# Altium footprint library Button_Switch_SMD.PcbLib: 148 footprints (part 9 of 10)
Each footprint in its own frame and in the unit in brackets; x right, y up, seen from the top. Pads: shape width x height; smd on the part's side, far side on the other; paste and mask are expansions set on the pad; w line width, h text height; cw(c..) or ccw(c..) is an arc to the next point about the centre after c.
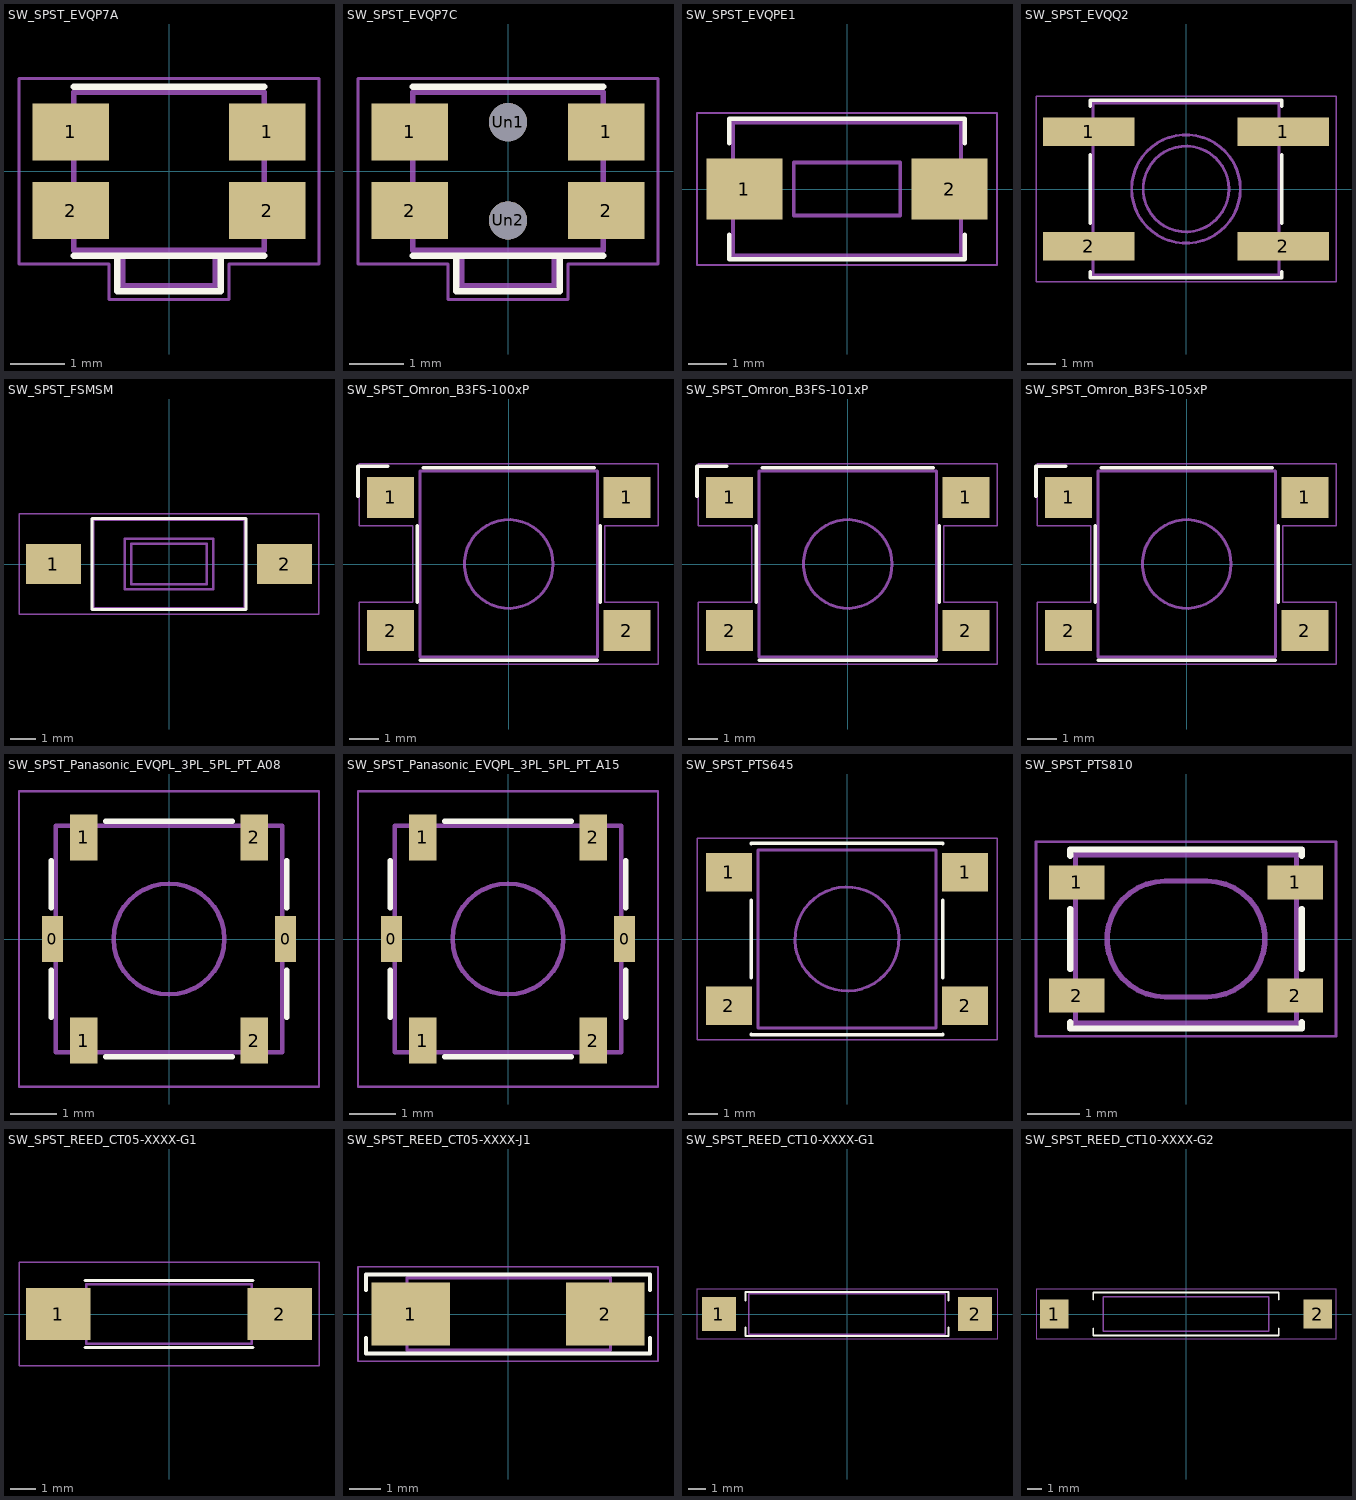
[diagram p8: the footprints below, top view; thin cyan lines are the x and y axes]

## SW_SPST_EVQP7A [mm]
pads (4):
  rect 1.4x1.05 smd: 1(-1.8,0.72) 1(1.8,0.72) 2(-1.8,-0.72) 2(1.8,-0.72)
F.SilkS:
  lines w0.12: -1.75,-1.55 1.75,-1.55 ; -1.75,1.55 1.75,1.55 ; -0.95,-1.55 -0.95,-2.2 0.95,-2.2 0.95,-1.55
F.CrtYd:
  lines w0.05: -2.75,-1.7 -1.1,-1.7 -1.1,-2.35 1.1,-2.35 1.1,-1.7 2.75,-1.7 2.75,1.7 -2.75,1.7 -2.75,-1.7
F.Fab:
  lines w0.1: -1.75,1.4 -1.75,-1.45 1.75,-1.45 1.75,1.45 -1.75,1.45 ; -0.85,-1.45 -0.85,-2.1 0.85,-2.1 0.85,-1.45
  text "'.Designator'" at -4.047,1.66 h1

## SW_SPST_EVQP7C [mm]
pads (6):
  rect 1.4x1.05 smd: 1(-1.8,0.72) 1(1.8,0.72) 2(-1.8,-0.72) 2(1.8,-0.72)
  round 0.7 hole 0.7: Un1(0,0.9) Un2(0,-0.9)
F.SilkS:
  lines w0.12: -1.75,-1.55 1.75,-1.55 ; -1.75,1.55 1.75,1.55 ; -0.95,-1.55 -0.95,-2.2 0.95,-2.2 0.95,-1.55
F.CrtYd:
  lines w0.05: -2.75,-1.7 -1.1,-1.7 -1.1,-2.35 1.1,-2.35 1.1,-1.7 2.75,-1.7 2.75,1.7 -2.75,1.7 -2.75,-1.7
F.Fab:
  lines w0.1: -1.75,1.4 -1.75,-1.45 1.75,-1.45 1.75,1.45 -1.75,1.45 ; -0.85,-1.45 -0.85,-2.1 0.85,-2.1 0.85,-1.45
  text "'.Designator'" at -4.047,1.66 h1

## SW_SPST_EVQPE1 [mm]
pads (2):
  rect 2x1.6 smd: 1(-2.7,0) 2(2.7,0)
F.SilkS:
  lines w0.12: -3.1,-1.2 -3.1,-1.85 3.1,-1.85 3.1,-1.2 ; -3.1,1.2 -3.1,1.85 3.1,1.85 3.1,1.2
F.CrtYd:
  lines w0.05: -3.95,-2 3.95,-2 3.95,2 -3.95,2 -3.95,-2
F.Fab:
  lines w0.1: -3,-1.75 3,-1.75 3,1.75 -3,1.75 -3,-1.75 ; -1.4,-0.7 1.4,-0.7 1.4,0.7 -1.4,0.7 -1.4,-0.7
  text "'.Designator'" at -4.047,1.81 h1

## SW_SPST_EVQQ2 [mm]
pads (4):
  rect 3.2x1 smd: 1(-3.4,2) 1(3.4,2) 2(-3.4,-2) 2(3.4,-2)
F.SilkS:
  lines w0.12: -3.35,-2.9 -3.35,-3.1 3.35,-3.1 3.35,-2.9 ; -3.35,-1.2 -3.35,1.2 ; -3.35,2.9 -3.35,3.1 3.35,3.1 3.35,2.9 ; 3.35,-1.2 3.35,1.2
F.CrtYd:
  lines w0.05: -5.25,-3.25 -5.25,3.25 5.25,3.25 5.25,-3.25 -5.25,-3.25
F.Fab:
  circle w0.1: c0,0 r1.9
  circle w0.1: c0,0 r1.5
  lines w0.1: -3.25,-3 3.25,-3 3.25,3 -3.25,3 -3.25,-3
  text "'.Designator'" at -3.997,3.11 h1

## SW_SPST_FSMSM [mm]
pads (2):
  rect 2.18x1.6 smd: 1(-4.59,0) 2(4.59,0)
F.SilkS:
  lines w0.12: -3.06,-1.81 -3.06,1.81 3.06,1.81 3.06,-1.81 -3.06,-1.81
F.CrtYd:
  lines w0.05: -5.95,-2 5.95,-2 5.95,2 -5.95,2 -5.95,-2
F.Fab:
  lines w0.1: -3,-1.75 3,-1.75 3,1.75 -3,1.75 -3,-1.75 ; -1.75,-1 -1.75,1 1.75,1 1.75,-1 -1.75,-1 ; -1.5,-0.8 -1.5,0.8 1.5,0.8 1.5,-0.8 -1.5,-0.8
  text "'.Designator'" at -4.047,1.76 h1

## SW_SPST_Omron_B3FS-100xP [mm]
pads (4):
  rect 1.6x1.4 smd: 1(-4,2.25) 1(4,2.25) 2(-4,-2.25) 2(4,-2.25)
F.SilkS:
  lines w0.12: -5.1,2.3 -5.1,3.3 -4.1,3.3 ; -3.1,-1.3 -3.1,1.3 ; -3,-3.25 3,-3.25 ; -2.9,3.25 2.9,3.25 ; 3.1,-1.3 3.1,1.3
F.CrtYd:
  lines w0.05: -5.05,-3.4 5.05,-3.4 5.05,-1.3 3.25,-1.3 3.25,1.3 5.05,1.3 5.05,3.4 -5.05,3.4 -5.05,1.3 -3.25,1.3 -3.25,-1.3 -5.05,-1.3 -5.05,-3.4
F.Fab:
  circle w0.1: c0,0 r1.5
  lines w0.1: -3,-3.15 3,-3.15 3,3.15 -3,3.15 -3,-3.15
  text "'.Designator'" at -4.047,1.36 h1

## SW_SPST_Omron_B3FS-101xP [mm]
pads (4):
  rect 1.6x1.4 smd: 1(-4,2.25) 1(4,2.25) 2(-4,-2.25) 2(4,-2.25)
F.SilkS:
  lines w0.12: -5.1,2.3 -5.1,3.3 -4.1,3.3 ; -3.1,-1.3 -3.1,1.3 ; -3,-3.25 3,-3.25 ; -2.9,3.25 2.9,3.25 ; 3.1,-1.3 3.1,1.3
F.CrtYd:
  lines w0.05: -5.05,-3.4 -5.05,-1.3 -3.25,-1.3 -3.25,1.3 -5.05,1.3 -5.05,3.4 5.05,3.4 5.05,1.3 3.25,1.3 3.25,-1.3 5.05,-1.3 5.05,-3.4 -5.05,-3.4
F.Fab:
  circle w0.1: c0,0 r1.5
  lines w0.1: -3,-3.15 3,-3.15 3,3.15 -3,3.15 -3,-3.15
  text "'.Designator'" at -4.047,1.36 h1

## SW_SPST_Omron_B3FS-105xP [mm]
pads (4):
  rect 1.6x1.4 smd: 1(-4,2.25) 1(4,2.25) 2(-4,-2.25) 2(4,-2.25)
F.SilkS:
  lines w0.12: -5.1,2.3 -5.1,3.3 -4.1,3.3 ; -3.1,-1.3 -3.1,1.3 ; -3,-3.25 3,-3.25 ; -2.9,3.25 2.9,3.25 ; 3.1,-1.3 3.1,1.3
F.CrtYd:
  lines w0.05: -5.05,-3.4 5.05,-3.4 5.05,-1.3 3.25,-1.3 3.25,1.3 5.05,1.3 5.05,3.4 -5.05,3.4 -5.05,1.3 -3.25,1.3 -3.25,-1.3 -5.05,-1.3 -5.05,-3.4
F.Fab:
  circle w0.1: c0,0 r1.5
  lines w0.1: -3,-3.15 3,-3.15 3,3.15 -3,3.15 -3,-3.15
  text "'.Designator'" at -4.047,1.36 h1

## SW_SPST_Panasonic_EVQPL_3PL_5PL_PT_A08 [mm]
pads (6):
  rect 0.45x1 smd: 0(-2.525,0) 0(2.525,0)
  rect 0.6x1 smd: 1(-1.85,-2.2) 1(-1.85,2.2) 2(1.85,-2.2) 2(1.85,2.2)
F.SilkS:
  lines w0.12: -2.55,-1.7 -2.55,-0.675 ; -2.55,0.675 -2.55,1.7 ; -1.375,-2.55 1.375,-2.55 ; -1.375,2.55 1.375,2.55 ; 2.55,-1.7 2.55,-0.675 ; 2.55,0.675 2.55,1.7
F.CrtYd:
  lines w0.05: -3.25,-3.2 3.25,-3.2 3.25,3.2 -3.25,3.2 -3.25,-3.2
F.Fab:
  circle w0.1: c0,0 r1.2
  lines w0.1: -2.45,-2.45 -2.45,2.45 2.45,2.45 2.45,-2.45 -2.45,-2.45
  text "'.Designator'" at -4.047,3.16 h1

## SW_SPST_Panasonic_EVQPL_3PL_5PL_PT_A15 [mm]
pads (6):
  rect 0.45x1 smd: 0(-2.525,0) 0(2.525,0)
  rect 0.6x1 smd: 1(-1.85,-2.2) 1(-1.85,2.2) 2(1.85,-2.2) 2(1.85,2.2)
F.SilkS:
  lines w0.12: -2.55,-1.7 -2.55,-0.675 ; -2.55,0.675 -2.55,1.7 ; -1.375,-2.55 1.375,-2.55 ; -1.375,2.55 1.375,2.55 ; 2.55,-1.7 2.55,-0.675 ; 2.55,0.675 2.55,1.7
F.CrtYd:
  lines w0.05: -3.25,-3.2 -3.25,3.2 3.25,3.2 3.25,-3.2 -3.25,-3.2
F.Fab:
  circle w0.1: c0,0 r1.2
  lines w0.1: -2.45,-2.45 2.45,-2.45 2.45,2.45 -2.45,2.45 -2.45,-2.45
  text "'.Designator'" at -4.047,3.16 h1

## SW_SPST_PTS645 [mm]
pads (4):
  rect 1.55x1.3 smd: 1(-3.98,2.25) 1(3.98,2.25) 2(-3.98,-2.25) 2(3.98,-2.25)
F.SilkS:
  lines w0.12: -3.23,-3.2 -3.23,-3.23 3.23,-3.23 3.23,-3.2 ; -3.23,-1.3 -3.23,1.3 ; -3.23,3.2 -3.23,3.23 3.23,3.23 3.23,3.2 ; 3.23,-1.3 3.23,1.3
F.CrtYd:
  lines w0.05: -5.05,-3.4 5.05,-3.4 5.05,3.4 -5.05,3.4 -5.05,-3.4
F.Fab:
  circle w0.1: c0,0 r1.751
  lines w0.1: -3,-3 -3,3 3,3 3,-3 -3,-3
  text "'.Designator'" at -4.047,3.21 h1

## SW_SPST_PTS810 [mm]
pads (4):
  rect 1.05x0.65 smd: 1(-2.075,1.075) 1(2.075,1.075) 2(-2.075,-1.075) 2(2.075,-1.075)
F.SilkS:
  lines w0.12: -2.2,-1.58 -2.2,-1.7 2.2,-1.7 2.2,-1.58 ; -2.2,-0.57 -2.2,0.57 ; -2.2,1.58 -2.2,1.7 2.2,1.7 2.2,1.58 ; 2.2,-0.57 2.2,0.57
F.CrtYd:
  lines w0.05: -2.85,-1.85 -2.85,1.85 2.85,1.85 2.85,-1.85 -2.85,-1.85
F.Fab:
  lines w0.1: -2.1,-1.6 -2.1,1.6 2.1,1.6 2.1,-1.6 -2.1,-1.6 ; -0.4,-1.1 0.4,-1.1 ccw(c0.4,0) 0.4,1.1 -0.4,1.1 ccw(c-0.4,0) -0.4,-1.1
  text "'.Designator'" at -2.428,-0.504 h0.6

## SW_SPST_REED_CT05-XXXX-G1 [mm]
pads (2):
  rect 2.5x2 smd: 1(-4.28,0) 2(4.28,0)
F.SilkS:
  lines w0.12: -3.25,-1.3 3.25,-1.3 ; -3.25,1.3 3.25,1.3
F.CrtYd:
  lines w0.05: -5.8,-2 -5.8,2 5.8,2 5.8,-2 -5.8,-2
F.Fab:
  lines w0.1: -3.2,-1.15 3.2,-1.15 3.2,1.15 -3.2,1.15 -3.2,-1.15
  text "'.Designator'" at -4.047,-3.59 h1

## SW_SPST_REED_CT05-XXXX-J1 [mm]
pads (2):
  rect 2.5x2 smd: 1(-3.08,0) 2(3.08,0)
F.SilkS:
  lines w0.12: -4.5,-0.75 -4.5,-1.25 4.5,-1.25 4.5,-0.75 ; -4.5,0.75 -4.5,1.25 4.5,1.25 4.5,0.75
F.CrtYd:
  lines w0.05: -4.75,-1.5 -4.75,1.5 4.75,1.5 4.75,-1.5 -4.75,-1.5
F.Fab:
  lines w0.1: -3.2,-1.15 -3.2,1.15 3.25,1.15 3.25,-1.15 -3.2,-1.15
  text "'.Designator'" at -4.047,-3.39 h1

## SW_SPST_REED_CT10-XXXX-G1 [mm]
pads (2):
  rect 2x2 smd: 1(-7.56,0) 2(7.56,0)
F.SilkS:
  lines w0.12: -6,-0.8 -6,-1.3 6,-1.3 6,-0.8 ; -6,0.8 -6,1.3 6,1.3 6,0.8
F.CrtYd:
  lines w0.05: -8.85,-1.5 8.85,-1.5 8.85,1.5 -8.85,1.5 -8.85,-1.5
F.Fab:
  lines w0.1: -5.8,-1.2 5.8,-1.2 5.8,1.2 -5.8,1.2 -5.8,-1.2
  text "'.Designator'" at -4.047,-3.09 h1

## SW_SPST_REED_CT10-XXXX-G2 [mm]
pads (2):
  rect 2x2 smd: 1(-9.21,0) 2(9.21,0)
F.SilkS:
  lines w0.12: -6.5,-1 -6.5,-1.5 6.5,-1.5 6.5,-1 ; -6.5,1 -6.5,1.5 6.5,1.5 6.5,1
F.CrtYd:
  lines w0.05: -10.5,-1.75 10.5,-1.75 10.5,1.75 -10.5,1.75 -10.5,-1.75
F.Fab:
  lines w0.1: -5.8,-1.2 -5.8,1.2 5.8,1.2 5.8,-1.2 -5.8,-1.2
  text "'.Designator'" at -4.047,-3.44 h1